# EAGLE library part TPS560430XFDBVT (library TPS560430XFDBVT)
SIMPLE SWITCHER 36-V, 600-mA Buck Regulator With High-Efficiency Sleep Mode Source: Datasheet <http://www.ti.com/lit/gpn/tps560430>
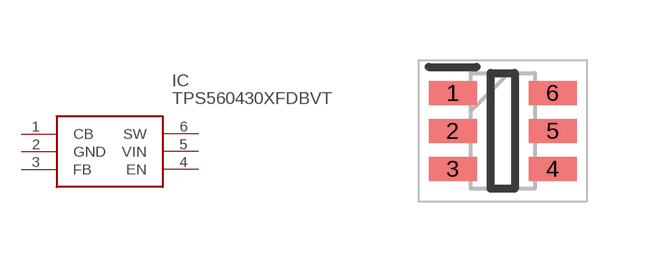
[diagram p0: symbol with the pads of SOT95P280X145-6N; footprint SOT95P280X145-6N]

Designator prefix IC

## TPS560430XFDBVT (Description: SIMPLE SWITCHER 36-V, 600-mA Buck Regulator With High-Efficiency Sleep Mode; Height: 1.45mm; Manufacturer_Name: Texas Instruments; Manufacturer_Part_Number: TPS560430XFDBVT; Mouser_Part_Number: 595-TPS560430XFDBVT; Mouser_Price-Stock: https://www.mouser.co.uk/ProductDetail/Texas-Instruments/TPS560430XFDBVT?qs=y6ZabgHbY%252ByMeZF67fh2Bg%3D%3D)  [SOT95P280X145-6N]
1  CB
2  GND
3  FB
4  EN
5  VIN
6  SW

## Footprint SOT95P280X145-6N (pad centres in mm)
DBV0006A-
smd 1.2 x 0.6: 1 -1.25,0.95; 2 -1.25,0; 3 -1.25,-0.95; 4 1.25,-0.95; 5 1.25,0; 6 1.25,0.95